# Altium schematic symbol library TPS7A2012PDBVR.SchLib: 1 symbol
Pins are listed as number, name and electrical type; pins without a type are passive.

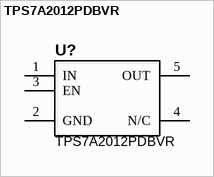
[diagram p0: symbol TPS7A2012PDBVR]

## TPS7A2012PDBVR
designator U?
300mA Fixed 1.2V Positive electrode 6V SOT-23-5 Voltage Regulators - Linear, Low Drop Out (LDO) Regulators ROHS; Manufacturer: Texas Instruments; Supplier: Mouser; Supplier Part Number: 595-TPS7A2033PDBVR; Manufacturer Part Number: TPS7A2012PDBVR; RoHS: Yes; Category: Voltage Regulators - Linear; Stock: 73824; Pricing: 1=0.49000, 10=0.41800, 50=0.41800, 100=0.29000, 1000=0.19000, 10000=0.15200 (USD); RoHS Compliant: Yes; JLCPCB Part #: C2864597; Value: TPS7A2012PDBVR
footprint SOT23-5
pins: 1 IN, 2 GND, 3 EN, 4 N/C, 5 OUT